# Altium schematic symbol library PCB-Tester-Board-V1.SCHLIB: 111 symbols (part 2 of 3)
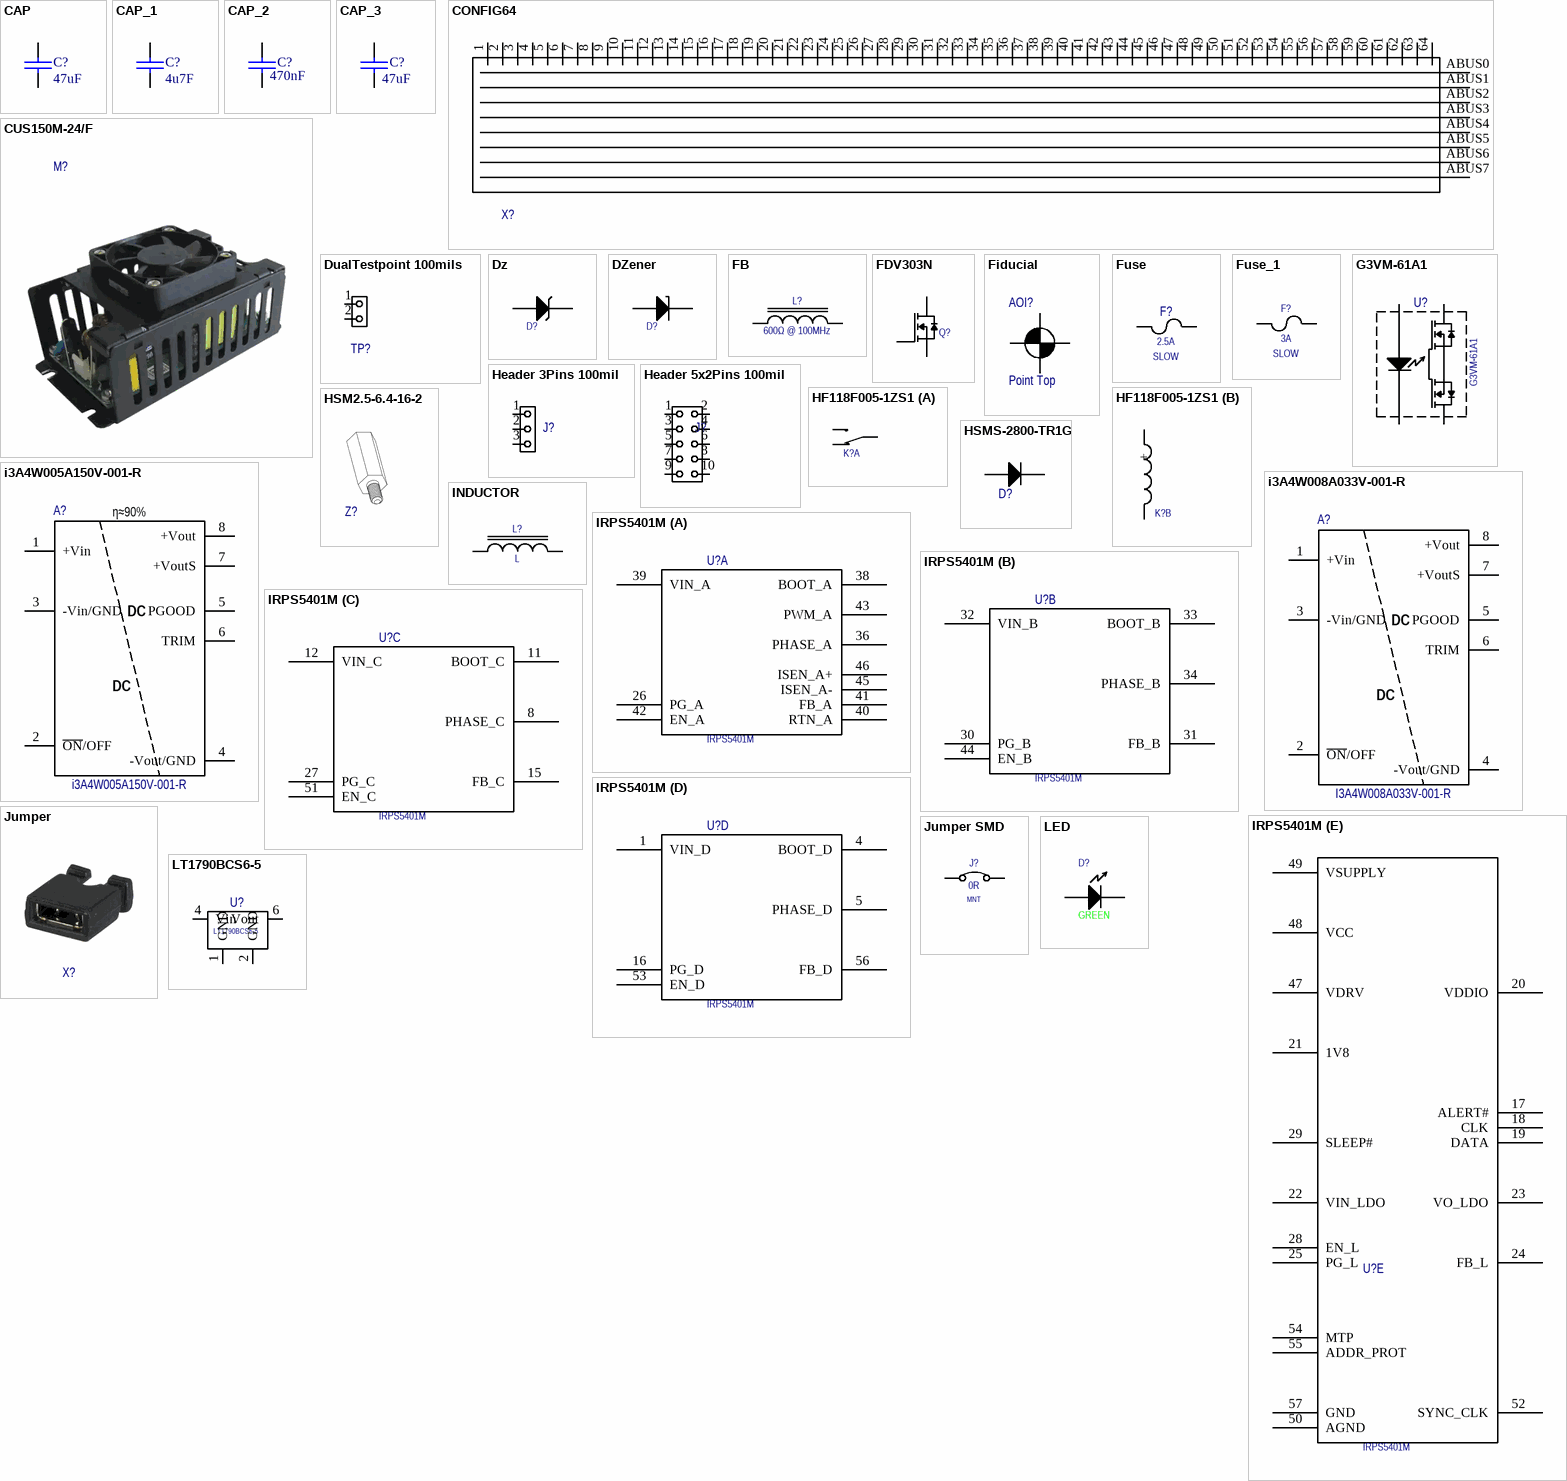
[diagram p4: symbols CAP to LT1790BCS6-5]

## Fuse_1
designator F?, comment value 3A  Speed: SLOW  (hidden comment: F)
FUSE BOARD MNT 3A 125VAC/VDC SMD; 04. Manufacturer: Littelfuse Inc.; 07. Manufacturer  Part Number: 0154003.DRTL; 03. Unit Price: 2.84; 13. Created Date/Name: AUG 2018 / Hören; 3D-Export: No; 01. Distributor: DigiKey; 02. Distributor Part Number: F10747DKR-ND; 09. Operating Temperature: -55°C ~ 125°C; 11. RoHS: YES; ComponentLink1Description: Info; ComponentLink1URL: https://www.digikey.de/product-detail/en/littelfuse-inc/0154003.DRTL/F10747DKR-ND/8109626; ComponentLink2Description: DataSheet; ComponentLink2URL: https://www.littelfuse.com/~/media/electronics/datasheets/fuses/littelfuse_fuse_154_154t_154l_154tl_datasheet.pdf.pdf
footprint OMNI-Fuse (SMD2 Fuse Clip)
pins: 1, 2

## G3VM-61A1
designator U?, comment NicName: G3VM-61A1  (hidden comment: U)
SSR RELAY SPST-NO 500MA 0-60V; 04. Manufacturer: Omron Electronics Inc-EMC Div; 03. Unit Price: 2.26; 13. Created Date/Name: AUG 2018 / Hören; 01. Distributor: DigiKey; 02. Distributor Part Number: Z2100-ND; 07. Manufacturer  Part Number: G3VM-61A1; 11. RoHS: YES; ComponentLink1Description: Info; ComponentLink1URL: https://www.digikey.de/products/en?keywords=G3VM-61A1; ComponentLink2Description: DataSheet; ComponentLink2URL: https://omronfs.omron.com/en_US/ecb/products/pdf/en-g3vm_61a1_d1.pdf; Package: 4DIP
footprint 4DIP
pins: 1 A, 2 C, 3 D, 4 D

## Header 3Pins 100mil
designator J?, comment J  (value not drawn)
CONN HEADER VERT 3POS 2.54MM; 04. Manufacturer: Samtec Inc.; 07. Manufacturer  Part Number: HMTSW-103-07-G-S-240; 03. Unit Price: 0.25; 13. Created Date/Name: AUG2018/Hören; 01. Distributor: Samtec Inc.; 02. Distributor Part Number: HMTSW-103-07-G-S-240; 11. RoHS: YES; ComponentLink1Description: Info; ComponentLink1URL: https://www.samtec.com/products/hmtsw-103-07-g-s-240; ComponentLink2Description: DataSheet; ComponentLink2URL: http://suddendocs.samtec.com/catalog_english/hmtsw.pdf
footprint Header 100mil 3x1 (HMTSW-103-07-G-S-240)
footprint CONNECTOR 100MIL 3x1
pins: 1, 2, 3

## Header 5x2Pins 100mil
designator J?, comment J  (value not drawn)
04. Manufacturer: Samtec Inc.; 07. Manufacturer  Part Number: HMTSW-103-07-G-S-240; 03. Unit Price: 0.25; 13. Created Date/Name: AUG2018/Hören; 01. Distributor: Samtec Inc.; 02. Distributor Part Number: HMTSW-103-07-G-S-240; 11. RoHS: YES; ComponentLink1Description: Info; ComponentLink1URL: https://www.samtec.com/products/hmtsw-103-07-g-s-240; ComponentLink2Description: DataSheet; ComponentLink2URL: http://suddendocs.samtec.com/catalog_english/hmtsw.pdf
footprint Header 100mil 5x2
pins: 1, 2, 3, 4, 5, 6, 7, 8, 9, 10

## HF118F005-1ZS1
designator K?, comment K  (value not drawn)
5V Power Relay, switch over; 04. Manufacturer: Hongfa Europe GMBH; 07. Manufacturer  Part Number: HF118F/005-1ZS1T(136); 03. Unit Price: 2.60; 13. Created Date/Name: AUG2018/Hören; Coil Resistance: 113Ω; Max Carry Current: 10A; Max Switch Voltage: 440Vac/125Vdc; Power Rating: 300Wdc/2.5KVAac; 01. Distributor: RS-Components; 02. Distributor Part Number: 176-2821; 09. Operating Temperature: -xx..+yy°C; 11. RoHS: YES; ComponentLink1Description: Info; ComponentLink1URL: https://de.rs-online.com/web/p/monostabile-relais/1762821/; ComponentLink2Description: DataSheet; ComponentLink2URL: https://docs.rs-online.com/c37d/0900766b81663e9a.pdf; Coil Voltage: 5V; Max Switch Current: 10A
footprint HF118F005-1ZS1 (Power Relay (Switch Over))
part A pins: 2 Cin, 3 Cno, 4 Cnc
part B pins: 1 +, 5 -

## HSM2.5-6.4-16-2
designator Z?, comment Z  (value not drawn)
HEX STANDOFF M2.5 BRASS 16MM; 04. Manufacturer: Essentra Components; 07. Manufacturer  Part Number: HSM2.5-6.4-16-2; 03. Unit Price: 2.69; 13. Created Date/Name: ??? / Hören; 01. Distributor: DigiKey; 02. Distributor Part Number: HSM2.5-6.4-16-2-ND; ComponentLink1Description: Info; ComponentLink1URL: https://www.digikey.de/products/en/hardware-fasteners-accessories/board-spacers-standoffs/582?k=standoff&k=&pkeyword=standoff&sv=0&pv741=29561&sf=0&FV=29%7C371405%2C1839%7C370197%2C1989%7C0%2C-8%7C582&quantity=&ColumnSort=-1000009&page=1&pageSize=25; ComponentLink2Description: DataSheet; ComponentLink2URL: https://www.essentracomponents.com.sg/images-line/pdfs/HTNSP.pdf
footprint HSM2.5-6.4-16-2 (M2.5 x 16 mm hex standoff)

## HSMS-2800-TR1G
designator D?, comment D  (value not drawn)
RF DIODE SCHOTTKY 70V SOT23-3; 13. Created Date/Name: AUG 2018 / Hören; ComponentLink1Description: Info; ComponentLink1URL: https://www.digikey.de/products/en/discrete-semiconductor-products/diodes-rf/284?k=HSMS-2800&k=&pkeyword=HSMS-2800&sv=0&pv7=243&sf=0&quantity=&ColumnSort=0&page=1&pageSize=25; ComponentLink2Description: DataSheet; ComponentLink2URL: https://docs.broadcom.com/docs/AV02-0533EN
footprint SOT23-3
pins: 1 A, 3 C

## i3A4W005A150V-001-R
designator A?, comment NicName: i3A4W005A150V-001-R  Efficiency: η≈90%  (hidden comment: A)
DC DC CONVERTER 5-30V 135W; 13. Created Date/Name: AUG 2018 / Hören; ComponentLink1Description: Info; ComponentLink1URL: https://www.digikey.de/products/en/power-supplies-board-mount/dc-dc-converters/922?k=i3A4W005A150V; ComponentLink2Description: DataSheet; ComponentLink2URL: https://www.us.tdk-lambda.com/ftp/specs/i3a_full_datasheet.pdf?ref_disty=digikey
footprint I3A-POSETIVE
pins: 1 +Vin, 2 ~{ON}/OFF, 3 -Vin/GND, 4 -Vout/GND, 5 PGOOD, 6 TRIM, 7 +VoutS, 8 +Vout
text: DC

## i3A4W008A033V-001-R
designator A?, comment NicName: I3A4W008A033V-001-R  (hidden comment: A)
DC DC CONVERTER 3.3-16.5V; 04. Manufacturer: TDK-Lambda Americas Inc.; 03. Unit Price: 20.58; 13. Created Date/Name: AUG 2018 / Hören; 01. Distributor: DigiKey; 02. Distributor Part Number: 285-2720-ND; 07. Manufacturer  Part Number: I3A4W008A033V-001-R; 11. RoHS: YES; ComponentLink1Description: Info; ComponentLink1URL: https://www.digikey.de/products/en?keywords=I3A4W008A033V-001-R; ComponentLink2Description: DataSheet; ComponentLink2URL: https://www.us.tdk-lambda.com/ftp/specs/i3a_full_datasheet.pdf?ref_disty=digikey
footprint I3A-POSETIVE
pins: 1 +Vin, 2 ~{ON}/OFF, 3 -Vin/GND, 4 -Vout/GND, 5 PGOOD, 6 TRIM, 7 +VoutS, 8 +Vout
text: DC

## INDUCTOR
designator L?, comment L
INDUCTOR; 04. Manufacturer: Coilcraft; Impedance Tolerance: %; ComponentLink1Description: Info; ComponentLink1URL: https://www.digikey.de/products/en?keywords=732-1620-6-ND; ComponentLink2Description: DataSheet; ComponentLink2URL: https://www.we-online.de/katalog/datasheet/742792040.pdf; 11. RoHS: YES; Tolerance: *; Value: *; Inductance: L
footprint XAL7070 (XAL7070 series inductor)
pins: 1, 2

## IRPS5401M
designator U?
MFR-PN: IRPS5401MTRPBF; MFR: Infineon; 07. Manufacturer  Part Number: IRPS5401MTRPBF; 11. RoHS: YES; ComponentLink4Description: Info; ComponentLink4URL: https://www.digikey.de/products/en?keywords=XC7A15T-1CSG324C; ComponentLink5Description: DataSheet; ComponentLink5URL: https://www.xilinx.com/support/documentation/data_sheets/ds181_Artix_7_Data_Sheet.pdf; ComponentLink6Description: NXP; ComponentLink6URL: https://www.nxp.com/part/MK20DN512VMD10; NicName: IRPS5401M
footprint QFN4-7x7-56_IRPS5401M (QFN, 7x7mm, 56 pins, pitch 0.4mm, IRPS5401 version)
part A pins: 26 PG_A, 36 PHASE_A, 38 BOOT_A, 39 VIN_A, 40 RTN_A, 41 FB_A, 42 EN_A, 43 PWM_A, 45 ISEN_A-, 46 ISEN_A+
part B pins: 30 PG_B, 31 FB_B, 32 VIN_B, 33 BOOT_B, 34 PHASE_B, 44 EN_B
part C pins: 8 PHASE_C, 11 BOOT_C, 12 VIN_C, 15 FB_C, 27 PG_C, 51 EN_C
part D pins: 1 VIN_D, 4 BOOT_D, 5 PHASE_D, 16 PG_D, 53 EN_D, 56 FB_D
part E pins: 17 ALERT#, 18 CLK, 19 DATA, 20 VDDIO, 21 1V8, 22 VIN_LDO, 23 VO_LDO, 24 FB_L, 25 PG_L, 28 EN_L, 29 SLEEP#, 47 VDRV, 48 VCC, 49 VSUPPLY, 50 AGND, 52 SYNC_CLK, 54 MTP, 55 ADDR_PROT, 57 GND

## Jumper
designator X?, comment X  (value not drawn)
CONN JUMPER SHORTING .100" GOLD; 04. Manufacturer: Sullins Connector Solutions; 07. Manufacturer  Part Number: QPC02SXGN-RC; 03. Unit Price: 0.09; 13. Created Date/Name: AUG2018/Hören; 01. Distributor: DigiKey; 02. Distributor Part Number: S9337-ND; 09. Operating Temperature: -xx..+yy°C; 11. RoHS: ???; ComponentLink1Description: Info; ComponentLink1URL: https://www.digikey.de/product-detail/en/sullins-connector-solutions/QPC02SXGN-RC/S9337-ND/2618262; ComponentLink2Description: DataSheet

## Jumper SMD
designator J?, comment value 0R  POPULATED: MNT  (hidden comment: J)
RES SMD 0 OHM JUMPER 1/10W 0603; 04. Manufacturer: Yageo; 07. Manufacturer  Part Number: RC0603JR-070RL; 03. Unit Price: 0.09; 01. Distributor: DigiKey; 02. Distributor Part Number: 311-0.0GRDKR-ND; 09. Operating Temperature: -55°C ~ 155°C; 11. RoHS: YES; Package: 0603; ComponentLink4Description: Info; ComponentLink4URL: https://www.digikey.de/product-detail/en/yageo/RC0603JR-070RL/311-0.0GRDKR-ND/732569; ComponentLink5Description: DataSheet; ComponentLink5URL: http://www.yageo.com/documents/recent/PYu-RC_Group_51_RoHS_L_10.pdf
footprint JumperSMD (Chip Resistor, Body 1.6x0.8mm (LxW typ), IPC High Density)
pins: 1, 2

## LED
designator D?, comment Color: GREEN  (hidden comment: D)
LED GREEN DIFFUSED 0603 SMD; 04. Manufacturer: OSRAM Opto Semiconductors Inc.; 07. Manufacturer  Part Number: LG L29K-G2J1-24-Z; Vf: 1.7V; If: 2mA; Wave Length: 570nm; Viewing Angle: 160°; 03. Unit Price: 0.4; 13. Created Date/Name: AUG2018/Hören; ComponentLink1Description: Info; ComponentLink1URL: https://www.digikey.de/products/en?keywords=475-2709-6-ND; ComponentLink2Description: DataSheet; ComponentLink2URL: https://www.digikey.de/products/en?keywords=475-2709-6-ND; 02. Distributor Part Number: 475-2709-6-ND; 11. RoHS: YES; 01. Distributor: DigiKey
footprint L0603G (LTST-C191KGKT)
footprint L0603B (LTST-C191TBKT)
footprint L0603O (LTST-C191KFKT)
footprint L0603R (LTST-C191KRKT)
pins: 1 Anode, 2 Cathode

## LT1790BCS6-5
designator U?, comment NicName: LT1790BCS6-5  (hidden comment: U)
IC VREF SERIES 5V, 0.1% TSOT-23-6; 04. Manufacturer: Linear Technology/Analog Devices; 07. Manufacturer  Part Number: LT1790BCS6-5#TRMPBF; 03. Unit Price: 2.86; 13. Created Date/Name: AUG 2018 / Hören; 01. Distributor: DigiKey; 02. Distributor Part Number: LT1790BCS6-5#TRMPBFDKR-ND; 09. Operating Temperature: 0°C ~ 70°C (TA); 11. RoHS: YES; ComponentLink1Description: Info; ComponentLink1URL: https://www.digikey.de/product-detail/en/linear-technology-analog-devices/LT1790BCS6-5-TRMPBF/LT1790BCS6-5-TRMPBFDKR-ND/1618066; ComponentLink2Description: DataSheet; ComponentLink2URL: https://www.analog.com/media/en/technical-documentation/data-sheets/1790fc.pdf
footprint TSOT23-6(S6) (6-Lead Plastic TSOT-23)
pins: 1 GND, 2 GND, 4 Vin, 6 Vout

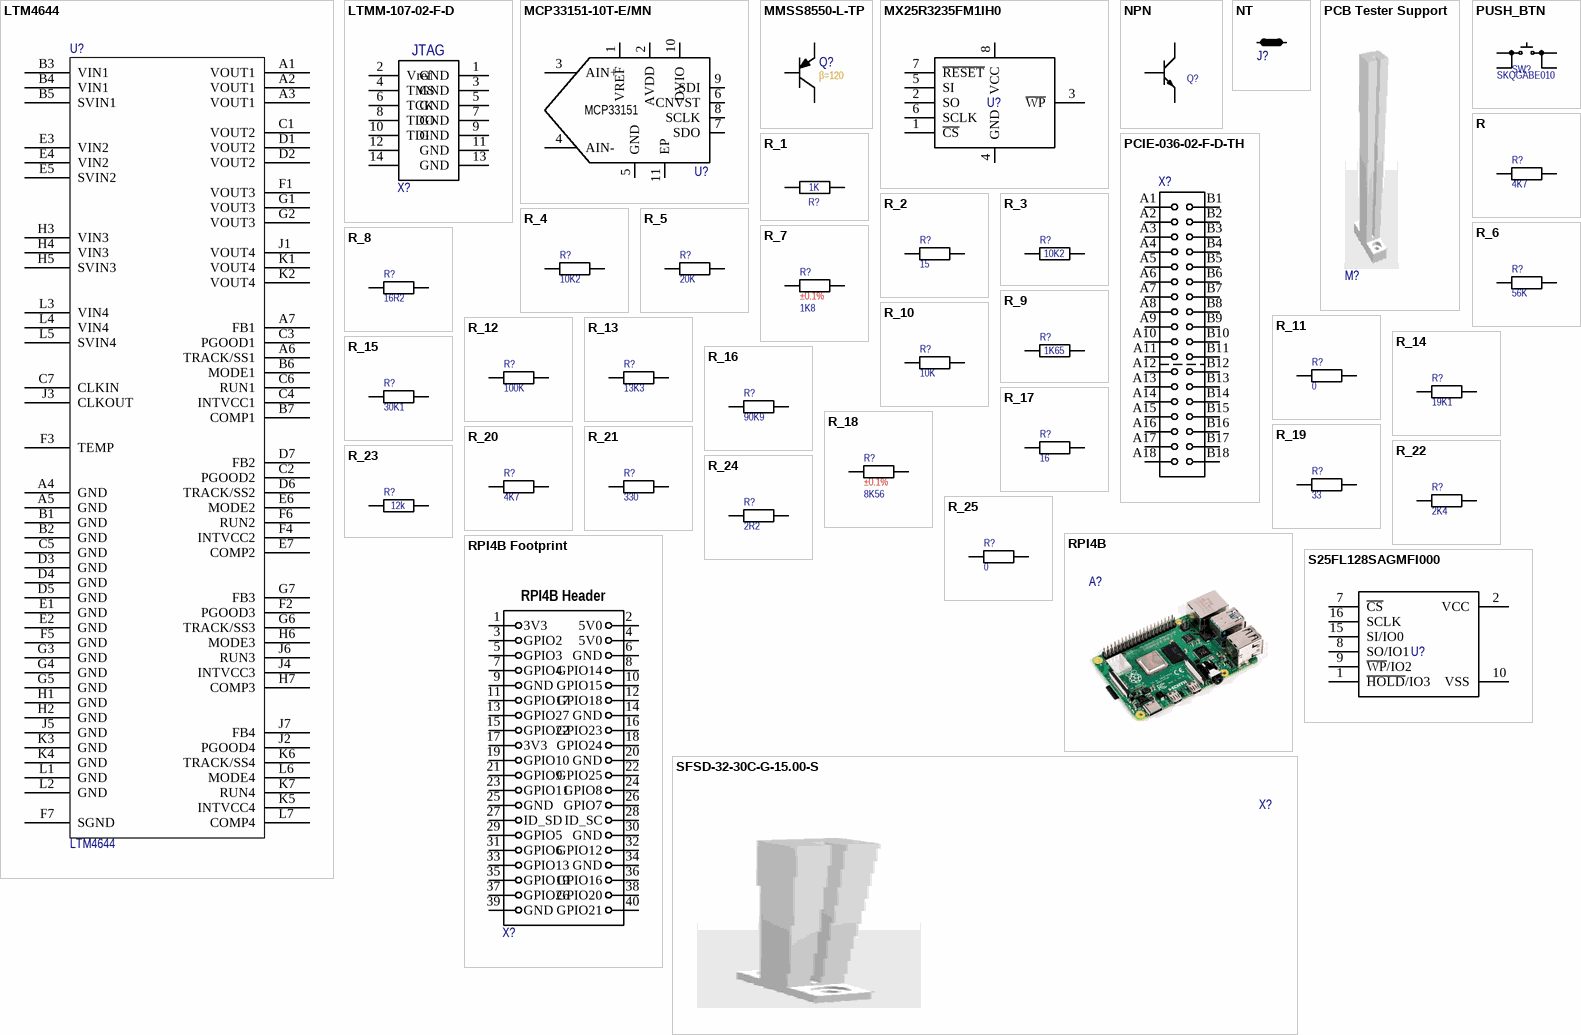
[diagram p2: symbols LTM4644 to SFSD-32-30C-G-15.00-S]

## LTM4644
designator U?, comment NicName: LTM4644  (hidden comment: U)
DC DC CONVERTER 4X0.6-5.5V; MFR-PN: LTM4644EY#PBF; MFR: LINEAR TECHNOLOGY; 04. Manufacturer: Linear Technology/Analog Devices; POPULATED: yes; 03. Unit Price: 39.30; 01. Distributor: DigiKey; 02. Distributor Part Number: LTM4644EY#PBF-ND; 07. Manufacturer  Part Number: LTM4644EY#PBF; 09. Operating Temperature: -40°C ~ 125°C; 11. RoHS: YES; ComponentLink4Description: Info; ComponentLink4URL: https://www.digikey.de/products/en?keywords=LTM4644EY%23PBF; ComponentLink5Description: DataSheet; ComponentLink5URL: http://www.analog.com/media/en/technical-documentation/data-sheets/4644fe.pdf
footprint LTM4644 (Footprint not found)
pins: A1 VOUT1, A2 VOUT1, A3 VOUT1, A4 GND, A5 GND, A6 TRACK/SS1, A7 FB1, B1 GND, B2 GND, B3 VIN1, B4 VIN1, B5 SVIN1, B6 MODE1, B7 COMP1, C1 VOUT2, C2 PGOOD2, C3 PGOOD1, C4 INTVCC1, C5 GND, C6 RUN1, C7 CLKIN, D1 VOUT2, D2 VOUT2, D3 GND, D4 GND, D5 GND, D6 TRACK/SS2, D7 FB2, E1 GND, E2 GND, E3 VIN2, E4 VIN2, E5 SVIN2, E6 MODE2, E7 COMP2, F1 VOUT3, F2 PGOOD3, F3 TEMP, F4 INTVCC2, F5 GND, F6 RUN2, F7 SGND, G1 VOUT3, G2 VOUT3, G3 GND, G4 GND, G5 GND, G6 TRACK/SS3, G7 FB3, H1 GND, H2 GND, H3 VIN3, H4 VIN3, H5 SVIN3, H6 MODE3, H7 COMP3, J1 VOUT4, J2 PGOOD4, J3 CLKOUT, J4 INTVCC3, J5 GND, J6 RUN3, J7 FB4, K1 VOUT4, K2 VOUT4, K3 GND, K4 GND, K5 INTVCC4, K6 TRACK/SS4, K7 RUN4, L1 GND, L2 GND, L3 VIN4, L4 VIN4, L5 SVIN4, L6 MODE4, L7 COMP4

## LTMM-107-02-F-D
designator X?, comment NickName: JTAG  (hidden comment: X)
CONN HEADER VERT 14POS 2MM; 04. Manufacturer: Samtec Inc.; 07. Manufacturer  Part Number: LTMM-107-02-F-D; 03. Unit Price: 2.38; 13. Created Date/Name: ??? / Hören; System: Connector; 01. Distributor: DigiKey; 02. Distributor Part Number: LTMM-107-02-F-D-ND; 11. RoHS: YES; ComponentLink1Description: Info; ComponentLink1URL: https://www.digikey.de/product-detail/en/samtec-inc/LTMM-107-02-F-D/LTMM-107-02-F-D-ND/8723899; ComponentLink2Description: DataSheet; ComponentLink2URL: https://www.samtec.com/products/ltmm
footprint LTMM-107-02-F-D (CONN HEADER VERT 14POS 2MM (Xilinx JTAG))
pins: 1 GND, 2 Vref, 3 GND, 4 TMS, 5 GND, 6 TCK, 7 GND, 8 TDO, 9 GND, 10 TDI, 11 GND, 12, 13 GND, 14

## MCP33151-10T-E/MN
designator U?, comment NicName: MCP33151  (hidden comment: U)
14-BIT 1 MSPS SGL CH SGL-ENDED S; 04. Manufacturer: Microchip Technology; 07. Manufacturer  Part Number: MCP33151-10T-E/MN; 03. Unit Price: 4.5; 13. Created Date/Name: AUG 2018 / Hören; 01. Distributor: DigiKey; 02. Distributor Part Number: MCP33151-10T-E/MNDKR-ND; 11. RoHS: YES; ComponentLink1Description: Info; ComponentLink1URL: https://www.digikey.de/product-detail/en/microchip-technology/MCP33151-10T-E-MN/MCP33151-10T-E-MNDKR-ND/10270414; ComponentLink2Description: DataSheet; ComponentLink2URL: http://ww1.microchip.com/downloads/en/DeviceDoc/MCP33151-XX-Family-Data-Sheet-DS20006220A.pdf; Package: 10-WFDFN Exposed Pad
footprint TDFN10EP (Microchip TDFN 10 pins, exposed pad)
pins: 1 VREF, 2 AVDD, 3 AIN+, 4 AIN-, 5 GND, 6 CNVST, 7 SDO, 8 SCLK, 9 SDI, 10 DVIO, 11 EP

## MMSS8550-L-TP
designator Q?, comment HFE: β=120  (hidden comment: Q)
TRANS PNP 25V 1.5A SOT-23; 04. Manufacturer: Micro Commercial Co; 07. Manufacturer  Part Number: MMSS8550-L-TP; 03. Unit Price: 0.17; 13. Created Date/Name: AUG 2018 / Hören; 01. Distributor: DigiKey; 02. Distributor Part Number: MMSS8550-L-TPMSDKR-ND; 09. Operating Temperature: -55°C ~ 150°C (TJ); 11. RoHS: YES; ComponentLink1Description: Info; ComponentLink1URL: https://www.digikey.de/product-detail/en/micro-commercial-co/MMSS8550-L-TP/MMSS8550-L-TPMSDKR-ND/2827206; ComponentLink2Description: DataSheet; ComponentLink2URL: https://www.mccsemi.com/pdf/Products/MMSS8550(SOT-23).pdf; Package: SOT23-3
footprint SOT23-3
pins: 1 B, 2 E, 3 C

## MX25R3235FM1IH0
designator U?, comment U  (value not drawn)
IC FLASH 32M SPI 80MHZ 8SOP; 13. Created Date/Name: AUG 2018 / Hören; ComponentLink1Description: Info; ComponentLink1URL: https://www.digikey.de/product-detail/en/macronix/MX25R3235FM1IH0/1092-1175-ND/5957736; ComponentLink2Description: DataSheet; ComponentLink2URL: https://www.macronix.com/Lists/Datasheet/Attachments/7534/MX25R3235F%2c%20Wide%20Range%2c%2032Mb%2c%20v1.6.pdf
footprint SOIC8 (R-8) (Generic 8 lead SOIC Narrow Body)
pins: 1 ~{CS}, 2 SO, 3 ~{WP}, 4 GND, 5 SI, 6 SCLK, 7 ~{RESET}, 8 VCC

## NPN
designator Q?, comment Q  (value not drawn)
MOSFET N-CH 25V 680MA SOT-23; 04. Manufacturer: ON Semiconductor; 07. Manufacturer  Part Number: FDV303N; 03. Unit Price: 0.41; 13. Created Date/Name: AUG 2018 / Hören; Rds On: 450 mΩ @ id=500mA & Vgs=4.5V; Vgs,th: 1.5V @ 250uA; Power Rating: 350mW; 3D-Export: No; 01. Distributor: DigiKey; 02. Distributor Part Number: FDV303NDKR-ND; 09. Operating Temperature: -55°C ~ 150°C (TJ); 11. RoHS: YES; ComponentLink1Description: Info; ComponentLink1URL: https://www.digikey.de/product-detail/en/on-semiconductor/FDV303N/FDV303NDKR-ND/1630434; ComponentLink2Description: DataSheet; ComponentLink2URL: https://media.digikey.com/pdf/Data%20Sheets/Fairchild%20PDFs/FDV303N.pdf; Vdss: 25V; Id: 680mA
footprint SOT23-3
pins: 1 B, 2 E, 3 C

## NT
designator J?, comment J  (value not drawn)  (net tie, no BOM)
Net Tie; 13. Created Date/Name: AUG2018/Hören; 01. Distributor: N/A; 02. Distributor Part Number: N/A; 03. Unit Price: N/A; 04. Manufacturer: N/A; 05. Quantity: N/A; 06. Data Sheet: N/A; 07. Manufacturer  Part Number: N/A; 08. Inhouse Stock: N/A; 09. Operating Temperature: N/A; 10. Weight: N/A; 11. RoHS: N/A; 12.UL94 Flammability: N/A; ComponentLink1Description: Info; ComponentLink2Description: DataSheet
footprint NT0201 (10 mil)
footprint NT0402 (20 mil)
footprint NT0603 (40 mil)
footprint NT0805 (50 mil)
footprint NT1206 (60 mil)
footprint NT1210 (100 mil)
footprint NT (3mm Ø 1.6mm)
pins: 1, 2

## PCB Tester Support
designator M?  (value not drawn)
13. Created Date/Name: ??? / Hören; System: Connector; ComponentLink1Description: Info; ComponentLink2Description: DataSheet
footprint PCB Tester Support

## PCIE-036-02-F-D-TH
designator X?, comment X  (value not drawn)
CONN PCI EXP FMALE 36POS 0.039; 04. Manufacturer: Samtec Inc.; 07. Manufacturer  Part Number: PCIE-036-02-F-D-TH; 03. Unit Price: 1.76; 13. Created Date/Name: ??? / Hören; System: Connector; 01. Distributor: DigiKey; 02. Distributor Part Number: SAM10625-ND; ComponentLink1Description: Info; ComponentLink1URL: https://www.digikey.de/products/en?keywords=PCIE-036-02-F-D-TH; ComponentLink2Description: DataSheet; ComponentLink2URL: http://suddendocs.samtec.com/catalog_english/pcie.pdf
footprint PCIE-036-02-F-D-TH (CONN PCI EXP FMALE 36POS 0.039)
pins: A1, A2, A3, A4, A5, A6, A7, A8, A9, A10, A11, A12, A13, A14, A15, A16, A17, A18, B1, B2, B3, B4, B5, B6, B7, B8, B9, B10, B11, B12, B13, B14, B15, B16, B17, B18

## PUSH_BTN
designator SW?, comment SKQGABE010
SKQGABE010 low profile push button switch; ComponentLink1URL: *; ComponentLink1Description: Info; 07. Manufacturer  Part Number: SKQGABE010; 11. RoHS: YES; ComponentLink2Description: DataSheet; Value: SKQGABE010
footprint SKQGABE010 (5.2mm square low-profile TACT switch)
pins: 1, 2, 3, 4
1 alternate drawing of the same symbol

## R
designator R?  value 4K7  (hidden comment: R)
Resistor; Tolerance: ±1%; 13. Created Date/Name: AUG2018/Hören; ComponentLink1URL: *; ComponentLink1Description: Info; 09. Operating Temperature: -xx..+yy°C; 11. RoHS: ???; ComponentLink2Description: DataSheet; Package: *
simulation model RESISTOR (Resistor)
signal-integrity model Res
footprint TO247-2
footprint R0201 Reflow (SMT Resistor 0201 Reflow Soldering)
footprint R0402 Reflow (SMT Resistor 0402 Reflow Soldering)
footprint R0603 Reflow (SMT Resistor 0603 Reflow Soldering)
footprint R0603 Wave (SMT Resistor 0603 Wave Soldering)
footprint R0805 Wave (SMT Resistor 0805 Wave Soldering)
footprint R0805 Reflow (SMT Resistor 0805 Reflow Soldering)
footprint R01005 Reflow (SMT Resistor 01005 Reflow Soldering)
footprint R1020 Reflow (SMT Resistor 0805 Reflow Soldering)
footprint R1020 Wave (SMT Resistor 0805 Wave Soldering)
footprint R1812 Reflow (SMT Resistor 1812 Reflow Soldering)
footprint R1812 Wave (SMT Resistor 1812 Wave Soldering)
footprint R1206 Reflow (SMT Resistor 1206 Reflow Soldering)
footprint R1206 Wave (SMT Resistor 1206 Wave Soldering)
footprint R1210 Reflow (SMT Resistor 1210 Reflow Soldering)
footprint R1210 Wave (SMT Resistor 1210 Wave Soldering)
footprint R2010 Reflow (SMT Resistor 2010 Reflow Soldering)
footprint R2010 Wave (SMT Resistor 2010 Wave Soldering)
footprint R2512 Reflow (SMT Resistor 2512 Reflow Soldering)
footprint R2512 Wave (SMT Resistor 2512 Wave Soldering)
footprint TO-220-2-Standing
pins: 1, 2
1 alternate drawing of the same symbol

## R_1
designator R?, comment value 1K  (hidden comment: R)
Resistor; Tolerance: ±1%; 13. Created Date/Name: AUG2018/Hören; ComponentLink1URL: *; ComponentLink1Description: Info; 09. Operating Temperature: -xx..+yy°C; 11. RoHS: ???; ComponentLink2Description: DataSheet; Package: *
simulation model RESISTOR (Resistor)
signal-integrity model Res
footprint TO247-2
footprint R0201 Reflow (SMT Resistor 0201 Reflow Soldering)
footprint R0402 Reflow (SMT Resistor 0402 Reflow Soldering)
footprint R0603 Reflow (SMT Resistor 0603 Reflow Soldering)
footprint R0603 Wave (SMT Resistor 0603 Wave Soldering)
footprint R0805 Wave (SMT Resistor 0805 Wave Soldering)
footprint R0805 Reflow (SMT Resistor 0805 Reflow Soldering)
footprint R01005 Reflow (SMT Resistor 01005 Reflow Soldering)
footprint R1020 Reflow (SMT Resistor 0805 Reflow Soldering)
footprint R1020 Wave (SMT Resistor 0805 Wave Soldering)
footprint R1812 Reflow (SMT Resistor 1812 Reflow Soldering)
footprint R1812 Wave (SMT Resistor 1812 Wave Soldering)
footprint R1206 Reflow (SMT Resistor 1206 Reflow Soldering)
footprint R1206 Wave (SMT Resistor 1206 Wave Soldering)
footprint R1210 Reflow (SMT Resistor 1210 Reflow Soldering)
footprint R1210 Wave (SMT Resistor 1210 Wave Soldering)
footprint R2010 Reflow (SMT Resistor 2010 Reflow Soldering)
footprint R2010 Wave (SMT Resistor 2010 Wave Soldering)
footprint R2512 Reflow (SMT Resistor 2512 Reflow Soldering)
footprint R2512 Wave (SMT Resistor 2512 Wave Soldering)
footprint TO-220-2-Standing
pins: 1, 2
1 alternate drawing of the same symbol

## R_2
designator R?, comment value 15  (hidden comment: R)
RES SMD 15 OHM 1% 1/10W 0402; 04. Manufacturer: Panasonic Electronic Components; 07. Manufacturer  Part Number: ERJ-2RKF15R0X; 03. Unit Price: 0.09; 13. Created Date/Name: AUG2018/Hören; Power Rating: 0.1W; Tolerance: ±1%; ComponentLink1URL: https://www.digikey.de/product-detail/en/panasonic-electronic-components/ERJ-2RKF15R0X/P15.0LDKR-ND/575530; ComponentLink1Description: Info; 02. Distributor Part Number: P15.0LDKR-ND; 09. Operating Temperature: -55°C ~ 155°C; 11. RoHS: YES; 01. Distributor: DigiKey; ComponentLink2Description: DataSheet; ComponentLink2URL: https://industrial.panasonic.com/cdbs/www-data/pdf/RDA0000/AOA0000C304.pdf; Type: Thick Film; Package: 0402
simulation model RESISTOR (Resistor)
signal-integrity model Res
footprint TO247-2
footprint R0201 Reflow (SMT Resistor 0201 Reflow Soldering)
footprint R0402 Reflow (SMT Resistor 0402 Reflow Soldering)
footprint R0603 Reflow (SMT Resistor 0603 Reflow Soldering)
footprint R0603 Wave (SMT Resistor 0603 Wave Soldering)
footprint R0805 Wave (SMT Resistor 0805 Wave Soldering)
footprint R0805 Reflow (SMT Resistor 0805 Reflow Soldering)
footprint R01005 Reflow (SMT Resistor 01005 Reflow Soldering)
footprint R1020 Reflow (SMT Resistor 0805 Reflow Soldering)
footprint R1020 Wave (SMT Resistor 0805 Wave Soldering)
footprint R1812 Reflow (SMT Resistor 1812 Reflow Soldering)
footprint R1812 Wave (SMT Resistor 1812 Wave Soldering)
footprint R1206 Reflow (SMT Resistor 1206 Reflow Soldering)
footprint R1206 Wave (SMT Resistor 1206 Wave Soldering)
footprint R1210 Reflow (SMT Resistor 1210 Reflow Soldering)
footprint R1210 Wave (SMT Resistor 1210 Wave Soldering)
footprint R2010 Reflow (SMT Resistor 2010 Reflow Soldering)
footprint R2010 Wave (SMT Resistor 2010 Wave Soldering)
footprint R2512 Reflow (SMT Resistor 2512 Reflow Soldering)
footprint R2512 Wave (SMT Resistor 2512 Wave Soldering)
footprint TO-220-2-Standing
pins: 1, 2
1 alternate drawing of the same symbol

## R_3
designator R?, comment value 10K2  (hidden comment: R)
RES SMD 10.2K OHM 1% 1/10W 0603; 04. Manufacturer: Yageo; 07. Manufacturer  Part Number: RC0603FR-0710K2L; 03. Unit Price: 0.09; 13. Created Date/Name: AUG2018/Hören; Power Rating: 0.1W; Tolerance: ±1%; ComponentLink1URL: *; ComponentLink1Description: Info; 02. Distributor Part Number: 311-10.2KHRDKR-ND; 09. Operating Temperature: -55°C ~ 155°C; 11. RoHS: YES; 01. Distributor: DigiKey; ComponentLink2Description: DataSheet; Type: Thick Film; Package: 0603
simulation model RESISTOR (Resistor)
signal-integrity model Res
footprint TO247-2
footprint R0201 Reflow (SMT Resistor 0201 Reflow Soldering)
footprint R0402 Reflow (SMT Resistor 0402 Reflow Soldering)
footprint R0603 Reflow (SMT Resistor 0603 Reflow Soldering)
footprint R0603 Wave (SMT Resistor 0603 Wave Soldering)
footprint R0805 Wave (SMT Resistor 0805 Wave Soldering)
footprint R0805 Reflow (SMT Resistor 0805 Reflow Soldering)
footprint R01005 Reflow (SMT Resistor 01005 Reflow Soldering)
footprint R1020 Reflow (SMT Resistor 0805 Reflow Soldering)
footprint R1020 Wave (SMT Resistor 0805 Wave Soldering)
footprint R1812 Reflow (SMT Resistor 1812 Reflow Soldering)
footprint R1812 Wave (SMT Resistor 1812 Wave Soldering)
footprint R1206 Reflow (SMT Resistor 1206 Reflow Soldering)
footprint R1206 Wave (SMT Resistor 1206 Wave Soldering)
footprint R1210 Reflow (SMT Resistor 1210 Reflow Soldering)
footprint R1210 Wave (SMT Resistor 1210 Wave Soldering)
footprint R2010 Reflow (SMT Resistor 2010 Reflow Soldering)
footprint R2010 Wave (SMT Resistor 2010 Wave Soldering)
footprint R2512 Reflow (SMT Resistor 2512 Reflow Soldering)
footprint R2512 Wave (SMT Resistor 2512 Wave Soldering)
footprint TO-220-2-Standing
pins: 1, 2
1 alternate drawing of the same symbol

## R_4
designator R?, comment value 10K2  (hidden comment: R)
RES SMD 1.62K OHM 1% 1/10W 0603; 04. Manufacturer: Yageo; 07. Manufacturer  Part Number: RC0603FR-071K62L; 03. Unit Price: 0.09; 13. Created Date/Name: AUG2018/Hören; Power Rating: 0.1W; Tolerance: ±1%; ComponentLink1URL: *; ComponentLink1Description: Info; 02. Distributor Part Number: 311-1.62KHRDKR-ND; 09. Operating Temperature: -55°C ~ 155°C; 11. RoHS: YES; 01. Distributor: DigiKey; ComponentLink2Description: DataSheet; Type: Thick Film; Package: 0603
simulation model RESISTOR (Resistor)
signal-integrity model Res
footprint TO247-2
footprint R0201 Reflow (SMT Resistor 0201 Reflow Soldering)
footprint R0402 Reflow (SMT Resistor 0402 Reflow Soldering)
footprint R0603 Reflow (SMT Resistor 0603 Reflow Soldering)
footprint R0603 Wave (SMT Resistor 0603 Wave Soldering)
footprint R0805 Wave (SMT Resistor 0805 Wave Soldering)
footprint R0805 Reflow (SMT Resistor 0805 Reflow Soldering)
footprint R01005 Reflow (SMT Resistor 01005 Reflow Soldering)
footprint R1020 Reflow (SMT Resistor 0805 Reflow Soldering)
footprint R1020 Wave (SMT Resistor 0805 Wave Soldering)
footprint R1812 Reflow (SMT Resistor 1812 Reflow Soldering)
footprint R1812 Wave (SMT Resistor 1812 Wave Soldering)
footprint R1206 Reflow (SMT Resistor 1206 Reflow Soldering)
footprint R1206 Wave (SMT Resistor 1206 Wave Soldering)
footprint R1210 Reflow (SMT Resistor 1210 Reflow Soldering)
footprint R1210 Wave (SMT Resistor 1210 Wave Soldering)
footprint R2010 Reflow (SMT Resistor 2010 Reflow Soldering)
footprint R2010 Wave (SMT Resistor 2010 Wave Soldering)
footprint R2512 Reflow (SMT Resistor 2512 Reflow Soldering)
footprint R2512 Wave (SMT Resistor 2512 Wave Soldering)
footprint TO-220-2-Standing
pins: 1, 2
1 alternate drawing of the same symbol

## R_5
designator R?, comment value 20K  (hidden comment: R)
RES SMD 20K OHM 5% 1/10W 0603; 04. Manufacturer: Yageo; 07. Manufacturer  Part Number: RC0603JR-0720KL; 03. Unit Price: 0.09; 13. Created Date/Name: AUG2018/Hören; Power Rating: 0.1W; Tolerance: ±5%; ComponentLink1URL: *; ComponentLink1Description: Info; 02. Distributor Part Number: 311-20KGRDKR-ND; 09. Operating Temperature: -55°C ~ 155°C; 11. RoHS: YES; 01. Distributor: DigiKey; ComponentLink2Description: DataSheet; Type: Thick Film; Package: 0603
simulation model RESISTOR (Resistor)
signal-integrity model Res
footprint TO247-2
footprint R0201 Reflow (SMT Resistor 0201 Reflow Soldering)
footprint R0402 Reflow (SMT Resistor 0402 Reflow Soldering)
footprint R0603 Reflow (SMT Resistor 0603 Reflow Soldering)
footprint R0603 Wave (SMT Resistor 0603 Wave Soldering)
footprint R0805 Wave (SMT Resistor 0805 Wave Soldering)
footprint R0805 Reflow (SMT Resistor 0805 Reflow Soldering)
footprint R01005 Reflow (SMT Resistor 01005 Reflow Soldering)
footprint R1020 Reflow (SMT Resistor 0805 Reflow Soldering)
footprint R1020 Wave (SMT Resistor 0805 Wave Soldering)
footprint R1812 Reflow (SMT Resistor 1812 Reflow Soldering)
footprint R1812 Wave (SMT Resistor 1812 Wave Soldering)
footprint R1206 Reflow (SMT Resistor 1206 Reflow Soldering)
footprint R1206 Wave (SMT Resistor 1206 Wave Soldering)
footprint R1210 Reflow (SMT Resistor 1210 Reflow Soldering)
footprint R1210 Wave (SMT Resistor 1210 Wave Soldering)
footprint R2010 Reflow (SMT Resistor 2010 Reflow Soldering)
footprint R2010 Wave (SMT Resistor 2010 Wave Soldering)
footprint R2512 Reflow (SMT Resistor 2512 Reflow Soldering)
footprint R2512 Wave (SMT Resistor 2512 Wave Soldering)
footprint TO-220-2-Standing
pins: 1, 2
1 alternate drawing of the same symbol

## R_6
designator R?, comment value 56K  (hidden comment: R)
RES SMD 56K OHM 5% 1/10W 0603; 04. Manufacturer: Panasonic Electronic Components; 07. Manufacturer  Part Number: ERJ-3GEYJ563V; 03. Unit Price: 0.09; 13. Created Date/Name: AUG2018/Hören; Power Rating: 0.1W; Tolerance: ±5%; ComponentLink1URL: https://www.digikey.de/product-detail/en/panasonic-electronic-components/ERJ-3GEYJ563V/P56KGDKR-ND/577742; ComponentLink1Description: Info; 02. Distributor Part Number: P56KGDKR-ND; 09. Operating Temperature: -55°C ~ 155°C; 11. RoHS: YES; 01. Distributor: DigiKey; ComponentLink2Description: DataSheet; Type: Thick Film; Package: 0603
simulation model RESISTOR (Resistor)
signal-integrity model Res
footprint TO247-2
footprint R0201 Reflow (SMT Resistor 0201 Reflow Soldering)
footprint R0402 Reflow (SMT Resistor 0402 Reflow Soldering)
footprint R0603 Reflow (SMT Resistor 0603 Reflow Soldering)
footprint R0603 Wave (SMT Resistor 0603 Wave Soldering)
footprint R0805 Wave (SMT Resistor 0805 Wave Soldering)
footprint R0805 Reflow (SMT Resistor 0805 Reflow Soldering)
footprint R01005 Reflow (SMT Resistor 01005 Reflow Soldering)
footprint R1020 Reflow (SMT Resistor 0805 Reflow Soldering)
footprint R1020 Wave (SMT Resistor 0805 Wave Soldering)
footprint R1812 Reflow (SMT Resistor 1812 Reflow Soldering)
footprint R1812 Wave (SMT Resistor 1812 Wave Soldering)
footprint R1206 Reflow (SMT Resistor 1206 Reflow Soldering)
footprint R1206 Wave (SMT Resistor 1206 Wave Soldering)
footprint R1210 Reflow (SMT Resistor 1210 Reflow Soldering)
footprint R1210 Wave (SMT Resistor 1210 Wave Soldering)
footprint R2010 Reflow (SMT Resistor 2010 Reflow Soldering)
footprint R2010 Wave (SMT Resistor 2010 Wave Soldering)
footprint R2512 Reflow (SMT Resistor 2512 Reflow Soldering)
footprint R2512 Wave (SMT Resistor 2512 Wave Soldering)
footprint TO-220-2-Standing
pins: 1, 2
1 alternate drawing of the same symbol

## R_7
designator R?, comment value 1K8  Tolerance: ±0.1%  (hidden comment: R)
RES SMD 1.8K OHM 0.1% 1/5W 0603; 04. Manufacturer: Panasonic Electronic Components; 07. Manufacturer  Part Number: ERJ-PB3B1801V; 03. Unit Price: 0.22; 13. Created Date/Name: AUG2018/Hören; Power Rating: 200mW; 3D-Export: No; ComponentLink1URL: https://www.digikey.de/product-detail/en/panasonic-electronic-components/ERJ-PB3B1801V/P19999DKR-ND/6215726; ComponentLink1Description: Info; 02. Distributor Part Number: P19999DKR-ND; 09. Operating Temperature: -55°C ~ 155°C; 11. RoHS: YES; 01. Distributor: DigiKey; ComponentLink2Description: DataSheet; ComponentLink2URL: https://industrial.panasonic.com/cdbs/www-data/pdf/RDM0000/AOA0000C328.pdf; Package: 0603
simulation model RESISTOR (Resistor)
signal-integrity model Res
footprint R0201
footprint R0402 (SMT Resistor 0402)
footprint R0603 (SMT Resistor 0603)
footprint R0805 (SMT Resistor 0805)
footprint R1206 (SMT Resistor 1206)
footprint R2512
footprint TO247-2
footprint R2010
footprint R0603 Reflow
pins: 1, 2
1 alternate drawing of the same symbol

## R_8
designator R?, comment value 16R2  (hidden comment: R)
RES SMD 16.2 OHM 1% 1/10W 0603; 04. Manufacturer: Yageo; 07. Manufacturer  Part Number: RC0603FR-0716R2L; 03. Unit Price: 0.09; 13. Created Date/Name: AUG2018/Hören; Power Rating: 100mW; 3D-Export: No; Tolerance: ±1%; ComponentLink1URL: https://www.digikey.de/product-detail/en/yageo/RC0603FR-0716R2L/311-16.2HRDKR-ND/732860; ComponentLink1Description: Info; 02. Distributor Part Number: 311-16.2HRDKR-ND; 09. Operating Temperature: -55°C ~ 155°C; 11. RoHS: YES; 01. Distributor: DigiKey; ComponentLink2Description: DataSheet; ComponentLink2URL: http://www.yageo.com/documents/recent/PYu-RC_Group_51_RoHS_L_10.pdf; Type: Thick Film; Package: 0603
simulation model RESISTOR (Resistor)
signal-integrity model Res
footprint R0201
footprint R0402 (SMT Resistor 0402)
footprint R0603 (SMT Resistor 0603)
footprint R0805 (SMT Resistor 0805)
footprint R1206 (SMT Resistor 1206)
footprint R2512
footprint TO247-2
footprint R2010
footprint R0603 Reflow
pins: 1, 2
1 alternate drawing of the same symbol

## R_9
designator R?, comment value 1K65  (hidden comment: R)
RES SMD 1.65K OHM 1% 1/16W 0402; 04. Manufacturer: Yageo; 07. Manufacturer  Part Number: RC0402FR-071K65L; 03. Unit Price: 0.09; 13. Created Date/Name: AUG2018/Hören; Power Rating: 63mW; Tolerance: ±1%; ComponentLink1URL: https://www.digikey.de/product-detail/en/yageo/RC0402FR-071K65L/YAG3043DKR-ND/5282914; ComponentLink1Description: Info; 02. Distributor Part Number: YAG3043DKR-ND; 09. Operating Temperature: -55°C ~ 155°C; 11. RoHS: YES; 01. Distributor: DigiKey; ComponentLink2Description: DataSheet; Type: Thick Film; Package: 0402
simulation model RESISTOR (Resistor)
signal-integrity model Res
footprint TO247-2
footprint R0201 Reflow (SMT Resistor 0201 Reflow Soldering)
footprint R0402 Reflow (SMT Resistor 0402 Reflow Soldering)
footprint R0603 Reflow (SMT Resistor 0603 Reflow Soldering)
footprint R0603 Wave (SMT Resistor 0603 Wave Soldering)
footprint R0805 Wave (SMT Resistor 0805 Wave Soldering)
footprint R0805 Reflow (SMT Resistor 0805 Reflow Soldering)
footprint R01005 Reflow (SMT Resistor 01005 Reflow Soldering)
footprint R1020 Reflow (SMT Resistor 0805 Reflow Soldering)
footprint R1020 Wave (SMT Resistor 0805 Wave Soldering)
footprint R1812 Reflow (SMT Resistor 1812 Reflow Soldering)
footprint R1812 Wave (SMT Resistor 1812 Wave Soldering)
footprint R1206 Reflow (SMT Resistor 1206 Reflow Soldering)
footprint R1206 Wave (SMT Resistor 1206 Wave Soldering)
footprint R1210 Reflow (SMT Resistor 1210 Reflow Soldering)
footprint R1210 Wave (SMT Resistor 1210 Wave Soldering)
footprint R2010 Reflow (SMT Resistor 2010 Reflow Soldering)
footprint R2010 Wave (SMT Resistor 2010 Wave Soldering)
footprint R2512 Reflow (SMT Resistor 2512 Reflow Soldering)
footprint R2512 Wave (SMT Resistor 2512 Wave Soldering)
footprint TO-220-2-Standing
pins: 1, 2
1 alternate drawing of the same symbol

## R_10
designator R?, comment value 10K  (hidden comment: R)
RES SMD 10K OHM 1% 1/16W 0402; 04. Manufacturer: Yageo; 07. Manufacturer  Part Number: RC0402FR-0710KL; 03. Unit Price: 0.09; 13. Created Date/Name: AUG2018/Hören; Power Rating: 63mW; Tolerance: ±1%; ComponentLink1URL: https://www.digikey.de/products/en?keywords=311-10.0KLRDKR-ND; ComponentLink1Description: Info; 02. Distributor Part Number: 311-10.0KLRDKR-ND; 09. Operating Temperature: -55°C ~ 155°C; 11. RoHS: YES; 01. Distributor: DigiKey; ComponentLink2Description: DataSheet; Type: Thick Film; Package: 0402
simulation model RESISTOR (Resistor)
signal-integrity model Res
footprint TO247-2
footprint R0201 Reflow (SMT Resistor 0201 Reflow Soldering)
footprint R0402 Reflow (SMT Resistor 0402 Reflow Soldering)
footprint R0603 Reflow (SMT Resistor 0603 Reflow Soldering)
footprint R0603 Wave (SMT Resistor 0603 Wave Soldering)
footprint R0805 Wave (SMT Resistor 0805 Wave Soldering)
footprint R0805 Reflow (SMT Resistor 0805 Reflow Soldering)
footprint R01005 Reflow (SMT Resistor 01005 Reflow Soldering)
footprint R1020 Reflow (SMT Resistor 0805 Reflow Soldering)
footprint R1020 Wave (SMT Resistor 0805 Wave Soldering)
footprint R1812 Reflow (SMT Resistor 1812 Reflow Soldering)
footprint R1812 Wave (SMT Resistor 1812 Wave Soldering)
footprint R1206 Reflow (SMT Resistor 1206 Reflow Soldering)
footprint R1206 Wave (SMT Resistor 1206 Wave Soldering)
footprint R1210 Reflow (SMT Resistor 1210 Reflow Soldering)
footprint R1210 Wave (SMT Resistor 1210 Wave Soldering)
footprint R2010 Reflow (SMT Resistor 2010 Reflow Soldering)
footprint R2010 Wave (SMT Resistor 2010 Wave Soldering)
footprint R2512 Reflow (SMT Resistor 2512 Reflow Soldering)
footprint R2512 Wave (SMT Resistor 2512 Wave Soldering)
footprint TO-220-2-Standing
pins: 1, 2
1 alternate drawing of the same symbol

## R_11
designator R?, comment value 0  (hidden comment: R)
RES SMD 0 OHM JUMPER 1/16W 0402; 04. Manufacturer: Yageo; 07. Manufacturer  Part Number: RC0402JR-070RL; 03. Unit Price: 0.09; 13. Created Date/Name: AUG2018/Hören; Power Rating: 63mW; ComponentLink1URL: https://www.digikey.de/products/en?keywords=311-0.0JRDKR-ND; ComponentLink1Description: Info; 02. Distributor Part Number: 311-0.0JRDKR-ND; 09. Operating Temperature: -55°C ~ 155°C; 11. RoHS: YES; 01. Distributor: DigiKey; ComponentLink2Description: DataSheet; Type: Thick Film; Package: 0402
simulation model RESISTOR (Resistor)
signal-integrity model Res
footprint TO247-2
footprint R0201 Reflow (SMT Resistor 0201 Reflow Soldering)
footprint R0402 Reflow (SMT Resistor 0402 Reflow Soldering)
footprint R0603 Reflow (SMT Resistor 0603 Reflow Soldering)
footprint R0603 Wave (SMT Resistor 0603 Wave Soldering)
footprint R0805 Wave (SMT Resistor 0805 Wave Soldering)
footprint R0805 Reflow (SMT Resistor 0805 Reflow Soldering)
footprint R01005 Reflow (SMT Resistor 01005 Reflow Soldering)
footprint R1020 Reflow (SMT Resistor 0805 Reflow Soldering)
footprint R1020 Wave (SMT Resistor 0805 Wave Soldering)
footprint R1812 Reflow (SMT Resistor 1812 Reflow Soldering)
footprint R1812 Wave (SMT Resistor 1812 Wave Soldering)
footprint R1206 Reflow (SMT Resistor 1206 Reflow Soldering)
footprint R1206 Wave (SMT Resistor 1206 Wave Soldering)
footprint R1210 Reflow (SMT Resistor 1210 Reflow Soldering)
footprint R1210 Wave (SMT Resistor 1210 Wave Soldering)
footprint R2010 Reflow (SMT Resistor 2010 Reflow Soldering)
footprint R2010 Wave (SMT Resistor 2010 Wave Soldering)
footprint R2512 Reflow (SMT Resistor 2512 Reflow Soldering)
footprint R2512 Wave (SMT Resistor 2512 Wave Soldering)
footprint TO-220-2-Standing
pins: 1, 2
1 alternate drawing of the same symbol

## R_12
designator R?, comment value 100K  (hidden comment: R)
RES SMD 100K OHM 1% 1/16W 0402; 04. Manufacturer: Yageo; 07. Manufacturer  Part Number: RC0402FR-07100KL; 03. Unit Price: 0.09; 13. Created Date/Name: AUG2018/Hören; Power Rating: 63mW; Tolerance: ±1%; ComponentLink1URL: *; ComponentLink1Description: Info; 02. Distributor Part Number: 311-100KLRDKR-ND; 09. Operating Temperature: -55°C ~ 155°C; 11. RoHS: YES; 01. Distributor: DigiKey; ComponentLink2Description: DataSheet; Type: Thick Film; Package: 0402
simulation model RESISTOR (Resistor)
signal-integrity model Res
footprint TO247-2
footprint R0201 Reflow (SMT Resistor 0201 Reflow Soldering)
footprint R0402 Reflow (SMT Resistor 0402 Reflow Soldering)
footprint R0603 Reflow (SMT Resistor 0603 Reflow Soldering)
footprint R0603 Wave (SMT Resistor 0603 Wave Soldering)
footprint R0805 Wave (SMT Resistor 0805 Wave Soldering)
footprint R0805 Reflow (SMT Resistor 0805 Reflow Soldering)
footprint R01005 Reflow (SMT Resistor 01005 Reflow Soldering)
footprint R1020 Reflow (SMT Resistor 0805 Reflow Soldering)
footprint R1020 Wave (SMT Resistor 0805 Wave Soldering)
footprint R1812 Reflow (SMT Resistor 1812 Reflow Soldering)
footprint R1812 Wave (SMT Resistor 1812 Wave Soldering)
footprint R1206 Reflow (SMT Resistor 1206 Reflow Soldering)
footprint R1206 Wave (SMT Resistor 1206 Wave Soldering)
footprint R1210 Reflow (SMT Resistor 1210 Reflow Soldering)
footprint R1210 Wave (SMT Resistor 1210 Wave Soldering)
footprint R2010 Reflow (SMT Resistor 2010 Reflow Soldering)
footprint R2010 Wave (SMT Resistor 2010 Wave Soldering)
footprint R2512 Reflow (SMT Resistor 2512 Reflow Soldering)
footprint R2512 Wave (SMT Resistor 2512 Wave Soldering)
footprint TO-220-2-Standing
pins: 1, 2
1 alternate drawing of the same symbol

## R_13
designator R?, comment value 13K3  (hidden comment: R)
RES SMD 13.3K OHM 1% 1/16W 0402; 04. Manufacturer: Yageo; 07. Manufacturer  Part Number: RC0402FR-0713K3L; 03. Unit Price: 0.09; 13. Created Date/Name: AUG2018/Hören; Power Rating: 63mW; Tolerance: ±1%; ComponentLink1URL: https://www.digikey.de/products/en?keywords=YAG2974DKR-ND; ComponentLink1Description: Info; 02. Distributor Part Number: YAG2974DKR-ND; 09. Operating Temperature: -55°C ~ 155°C; 11. RoHS: YES; 01. Distributor: DigiKey; ComponentLink2Description: DataSheet; Type: Thick Film; Package: 0402
simulation model RESISTOR (Resistor)
signal-integrity model Res
footprint TO247-2
footprint R0201 Reflow (SMT Resistor 0201 Reflow Soldering)
footprint R0402 Reflow (SMT Resistor 0402 Reflow Soldering)
footprint R0603 Reflow (SMT Resistor 0603 Reflow Soldering)
footprint R0603 Wave (SMT Resistor 0603 Wave Soldering)
footprint R0805 Wave (SMT Resistor 0805 Wave Soldering)
footprint R0805 Reflow (SMT Resistor 0805 Reflow Soldering)
footprint R01005 Reflow (SMT Resistor 01005 Reflow Soldering)
footprint R1020 Reflow (SMT Resistor 0805 Reflow Soldering)
footprint R1020 Wave (SMT Resistor 0805 Wave Soldering)
footprint R1812 Reflow (SMT Resistor 1812 Reflow Soldering)
footprint R1812 Wave (SMT Resistor 1812 Wave Soldering)
footprint R1206 Reflow (SMT Resistor 1206 Reflow Soldering)
footprint R1206 Wave (SMT Resistor 1206 Wave Soldering)
footprint R1210 Reflow (SMT Resistor 1210 Reflow Soldering)
footprint R1210 Wave (SMT Resistor 1210 Wave Soldering)
footprint R2010 Reflow (SMT Resistor 2010 Reflow Soldering)
footprint R2010 Wave (SMT Resistor 2010 Wave Soldering)
footprint R2512 Reflow (SMT Resistor 2512 Reflow Soldering)
footprint R2512 Wave (SMT Resistor 2512 Wave Soldering)
footprint TO-220-2-Standing
pins: 1, 2
1 alternate drawing of the same symbol

## R_14
designator R?, comment value 19K1  (hidden comment: R)
RES SMD 19.1K OHM 1% 1/16W 0402; 04. Manufacturer: Yageo; 07. Manufacturer  Part Number: RC0402FR-0719K1L; 03. Unit Price: 0.09; 13. Created Date/Name: AUG2018/Hören; Power Rating: 63mW; Tolerance: ±1%; ComponentLink1URL: *; ComponentLink1Description: Info; 02. Distributor Part Number: 311-19.1KLRDKR-ND; 09. Operating Temperature: -55°C ~ 155°C; 11. RoHS: YES; 01. Distributor: DigiKey; ComponentLink2Description: DataSheet; Type: Thick Film; Package: 0402
simulation model RESISTOR (Resistor)
signal-integrity model Res
footprint TO247-2
footprint R0201 Reflow (SMT Resistor 0201 Reflow Soldering)
footprint R0402 Reflow (SMT Resistor 0402 Reflow Soldering)
footprint R0603 Reflow (SMT Resistor 0603 Reflow Soldering)
footprint R0603 Wave (SMT Resistor 0603 Wave Soldering)
footprint R0805 Wave (SMT Resistor 0805 Wave Soldering)
footprint R0805 Reflow (SMT Resistor 0805 Reflow Soldering)
footprint R01005 Reflow (SMT Resistor 01005 Reflow Soldering)
footprint R1020 Reflow (SMT Resistor 0805 Reflow Soldering)
footprint R1020 Wave (SMT Resistor 0805 Wave Soldering)
footprint R1812 Reflow (SMT Resistor 1812 Reflow Soldering)
footprint R1812 Wave (SMT Resistor 1812 Wave Soldering)
footprint R1206 Reflow (SMT Resistor 1206 Reflow Soldering)
footprint R1206 Wave (SMT Resistor 1206 Wave Soldering)
footprint R1210 Reflow (SMT Resistor 1210 Reflow Soldering)
footprint R1210 Wave (SMT Resistor 1210 Wave Soldering)
footprint R2010 Reflow (SMT Resistor 2010 Reflow Soldering)
footprint R2010 Wave (SMT Resistor 2010 Wave Soldering)
footprint R2512 Reflow (SMT Resistor 2512 Reflow Soldering)
footprint R2512 Wave (SMT Resistor 2512 Wave Soldering)
footprint TO-220-2-Standing
pins: 1, 2
1 alternate drawing of the same symbol

## R_15
designator R?, comment value 30K1  (hidden comment: R)
RES SMD 30.1K OHM 1% 1/16W 0402; 04. Manufacturer: Yageo; 07. Manufacturer  Part Number: RC0402FR-0730K1L; 03. Unit Price: 0.09; 13. Created Date/Name: AUG2018/Hören; Power Rating: 63mW; Tolerance: ±1%; ComponentLink1URL: https://www.digikey.de/products/en?keywords=311-30.1KLRDKR-ND; ComponentLink1Description: Info; 02. Distributor Part Number: 311-30.1KLRDKR-ND; 09. Operating Temperature: -55°C ~ 155°C; 11. RoHS: YES; 01. Distributor: DigiKey; ComponentLink2Description: DataSheet; Type: Thick Film; Package: 0402
simulation model RESISTOR (Resistor)
signal-integrity model Res
footprint TO247-2
footprint R0201 Reflow (SMT Resistor 0201 Reflow Soldering)
footprint R0402 Reflow (SMT Resistor 0402 Reflow Soldering)
footprint R0603 Reflow (SMT Resistor 0603 Reflow Soldering)
footprint R0603 Wave (SMT Resistor 0603 Wave Soldering)
footprint R0805 Wave (SMT Resistor 0805 Wave Soldering)
footprint R0805 Reflow (SMT Resistor 0805 Reflow Soldering)
footprint R01005 Reflow (SMT Resistor 01005 Reflow Soldering)
footprint R1020 Reflow (SMT Resistor 0805 Reflow Soldering)
footprint R1020 Wave (SMT Resistor 0805 Wave Soldering)
footprint R1812 Reflow (SMT Resistor 1812 Reflow Soldering)
footprint R1812 Wave (SMT Resistor 1812 Wave Soldering)
footprint R1206 Reflow (SMT Resistor 1206 Reflow Soldering)
footprint R1206 Wave (SMT Resistor 1206 Wave Soldering)
footprint R1210 Reflow (SMT Resistor 1210 Reflow Soldering)
footprint R1210 Wave (SMT Resistor 1210 Wave Soldering)
footprint R2010 Reflow (SMT Resistor 2010 Reflow Soldering)
footprint R2010 Wave (SMT Resistor 2010 Wave Soldering)
footprint R2512 Reflow (SMT Resistor 2512 Reflow Soldering)
footprint R2512 Wave (SMT Resistor 2512 Wave Soldering)
footprint TO-220-2-Standing
pins: 1, 2
1 alternate drawing of the same symbol

## R_16
designator R?, comment value 90K9  (hidden comment: R)
RES SMD 90.9K OHM 1% 1/16W 0402; 04. Manufacturer: Yageo; 07. Manufacturer  Part Number: RC0402FR-0790K9L; 03. Unit Price: 0.09; 13. Created Date/Name: AUG2018/Hören; Power Rating: 63mW; Tolerance: ±1%; ComponentLink1URL: *; ComponentLink1Description: Info; 02. Distributor Part Number: 311-90.9KLRDKR-ND; 09. Operating Temperature: -55°C ~ 155°C; 11. RoHS: YES; 01. Distributor: DigiKey; ComponentLink2Description: DataSheet; Type: Thick Film; Package: 0402
simulation model RESISTOR (Resistor)
signal-integrity model Res
footprint TO247-2
footprint R0201 Reflow (SMT Resistor 0201 Reflow Soldering)
footprint R0402 Reflow (SMT Resistor 0402 Reflow Soldering)
footprint R0603 Reflow (SMT Resistor 0603 Reflow Soldering)
footprint R0603 Wave (SMT Resistor 0603 Wave Soldering)
footprint R0805 Wave (SMT Resistor 0805 Wave Soldering)
footprint R0805 Reflow (SMT Resistor 0805 Reflow Soldering)
footprint R01005 Reflow (SMT Resistor 01005 Reflow Soldering)
footprint R1020 Reflow (SMT Resistor 0805 Reflow Soldering)
footprint R1020 Wave (SMT Resistor 0805 Wave Soldering)
footprint R1812 Reflow (SMT Resistor 1812 Reflow Soldering)
footprint R1812 Wave (SMT Resistor 1812 Wave Soldering)
footprint R1206 Reflow (SMT Resistor 1206 Reflow Soldering)
footprint R1206 Wave (SMT Resistor 1206 Wave Soldering)
footprint R1210 Reflow (SMT Resistor 1210 Reflow Soldering)
footprint R1210 Wave (SMT Resistor 1210 Wave Soldering)
footprint R2010 Reflow (SMT Resistor 2010 Reflow Soldering)
footprint R2010 Wave (SMT Resistor 2010 Wave Soldering)
footprint R2512 Reflow (SMT Resistor 2512 Reflow Soldering)
footprint R2512 Wave (SMT Resistor 2512 Wave Soldering)
footprint TO-220-2-Standing
pins: 1, 2
1 alternate drawing of the same symbol

## R_17
designator R?, comment value 16  (hidden comment: R)
RES SMD 16 OHM 1% 1/10W 0603; 04. Manufacturer: Yageo; 07. Manufacturer  Part Number: RC0603FR-0716RL; 03. Unit Price: 0.09; 13. Created Date/Name: AUG2018/Hören; Power Rating: 100mW; 3D-Export: No; Tolerance: ±1%; ComponentLink1URL: https://www.digikey.de/product-detail/en/yageo/RC0603FR-0716RL/311-16.0HRDKR-ND/732858; ComponentLink1Description: Info; 02. Distributor Part Number: 311-16.0HRDKR-ND; 09. Operating Temperature: -55°C ~ 155°C; 11. RoHS: YES; 01. Distributor: DigiKey; ComponentLink2Description: DataSheet; ComponentLink2URL: http://www.yageo.com/documents/recent/PYu-RC_Group_51_RoHS_L_10.pdf; Type: Thick Film; Package: 0603
simulation model RESISTOR (Resistor)
signal-integrity model Res
footprint R0201
footprint R0402 (SMT Resistor 0402)
footprint R0603 (SMT Resistor 0603)
footprint R0805 (SMT Resistor 0805)
footprint R1206 (SMT Resistor 1206)
footprint R2512
footprint TO247-2
footprint R0603 Reflow
pins: 1, 2
1 alternate drawing of the same symbol

## R_18
designator R?, comment value 8K56  Tolerance: ±0.1%  (hidden comment: R)
RES 8.56K OHM 0.1% 1/8W 0603; 04. Manufacturer: Vishay Dale; 07. Manufacturer  Part Number: TNPW06038K56BEEA; 03. Unit Price: 0.56; 13. Created Date/Name: AUG2018/Hören; Power Rating: 125mW; 3D-Export: No; ComponentLink1URL: https://www.digikey.de/products/en/resistors/chip-resistor-surface-mount/52?k=&pkeyword=&sv=0&pv2085=u8.56+kOhms&pv3=370&sf=0&FV=ffe00034%2C1c00f3%2C1f140000&quantity=&ColumnSort=0&page=1&pageSize=25; ComponentLink1Description: Info; 02. Distributor Part Number: 541-4554-6-ND; 09. Operating Temperature: -55°C ~ 155°C; 11. RoHS: YES; 01. Distributor: DigiKey; ComponentLink2Description: DataSheet; ComponentLink2URL: http://www.vishay.com/docs/28758/tnpw_e3.pdf; Type: Thin Film; Package: 0603
simulation model RESISTOR (Resistor)
signal-integrity model Res
footprint R0201
footprint R0402 (SMT Resistor 0402)
footprint R0603 (SMT Resistor 0603)
footprint R0805 (SMT Resistor 0805)
footprint R1206 (SMT Resistor 1206)
footprint R2512
footprint TO247-2
footprint R0603 Reflow
pins: 1, 2
1 alternate drawing of the same symbol